# Altium footprint library DF11-20DS-2DSA(06).PcbLib: 1 footprints
Each footprint in its own frame and in the unit in brackets; x right, y up, seen from the top. Pads: shape width x height; smd on the part's side, far side on the other; paste and mask are expansions set on the pad; w line width, h text height; cw(c..) or ccw(c..) is an arc to the next point about the centre after c.
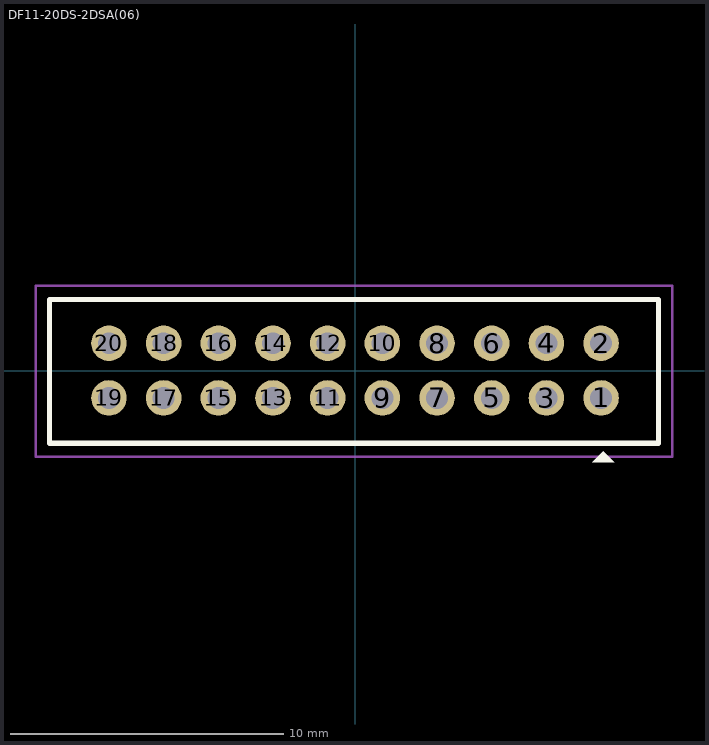
[diagram p0: the footprint, top view; thin cyan lines are the x and y axes]

## DF11-20DS-2DSA(06) [mm]
pads (20):
  round 1.3 hole 0.8: 1(9,-1) 2(9,1) 3(7,-1) 4(7,1) 5(5,-1) 6(5,1) 7(3,-1) 8(3,1) 9(1,-1) 10(1,1) 11(-1,-1) 12(-1,1) 13(-3,-1) 14(-3,1) 15(-5,-1) 16(-5,1) 17(-7,-1) 18(-7,1) 19(-9,-1) 20(-9,1)
Top Overlay:
  region: 9.475,-3.35 8.675,-3.35 9.075,-2.95
  lines w0.2: -11.175,-2.65 -11.175,2.6 11.1,2.6 11.1,-2.65 -11.175,-2.65
Top Courtyard:
  lines w0.1: -11.675,-3.15 11.6,-3.15 11.6,3.1 -11.675,3.1 -11.675,-2.65 -11.675,-3.15
3D body "DF11-20DS-2DSA-06---3DModel-STEP-1.STEP": height 5.7, standoff -3.5, extent -11.025,-2.525 10.975,2.475